# Altium schematic symbol library USB4110-GF-A.SchLib: 2 symbols
Pins are listed as number, name and electrical type; pins without a type are passive.

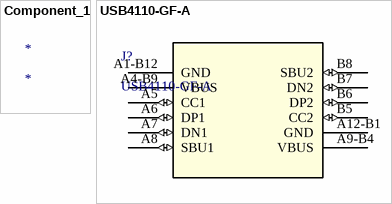
[diagram p0: symbols Component_1 to USB4110-GF-A]

## Component_1
designator *

## USB4110-GF-A
designator J?
No Description Available; Mfr_Name: Global Connector Technology; Copyright: Copyright (C) 2022 Ultra Librarian. All rights reserved.; Manufacturer_Part_Number: USB4110-GF-A; RefDes: RefDes; Type: DEV
footprint USB4110-GF-A_GCT
pins: A1-B12 GND, A4-B9 VBUS (power), A5 CC1 (io), A6 DP1 (io), A7 DN1 (io), A8 SBU1 (io), A9-B4 VBUS (power), A12-B1 GND, B5 CC2 (io), B6 DP2 (io), B7 DN2 (io), B8 SBU2 (io)